# EAGLE library part STM32WB55 (library EEG)
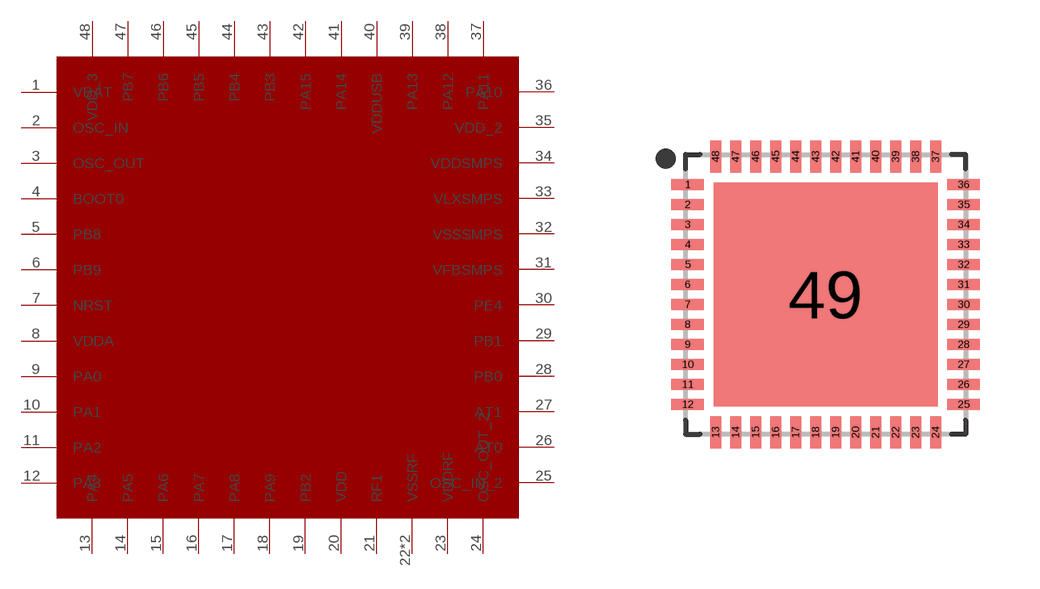
[diagram p2: symbol with the pads of STM32WB55; footprint STM32WB55]

Designator prefix -

## STM32WB55  [STM32WB55]
1  VBAT
2  OSC_IN
3  OSC_OUT
4  BOOT0
5  PB8
6  PB9
7  NRST
8  VDDA
9  PA0
10  PA1
11  PA2
12  PA3
13  PA4
14  PA5
15  PA6
16  PA7
17  PA8
18  PA9
19  PB2
20  VDD
21  RF1
22  VSSRF
23  VDDRF
24  OSC_OUT_2
25  OSC_IN_2
26  AT0
27  AT1
28  PB0
29  PB1
30  PE4
31  VFBSMPS
32  VSSSMPS
33  VLXSMPS
34  VDDSMPS
35  VDD_2
36  PA10
37  PA11
38  PA12
39  PA13
40  VDDUSB
41  PA14
42  PA15
43  PB3
44  PB4
45  PB5
46  PB6
47  PB7
48  VDD_3
49  VSSRF

## Footprint STM32WB55 (pad centres in mm)
48-QFN, 0.50 mm pitch, 7.00 X 7.00 X 0.55 mm body, 5.60 X 5.60 mm thermal pad 48-pin QFN package with 0.50 mm pitch with body size 7.00 X 7.00 X 0.55 mm and thermal pad size 5.60 X 5.60 mm
smd 0.812 x 0.282: 1 -3.45,2.75; 2 -3.45,2.25; 3 -3.45,1.75; 4 -3.45,1.25; 5 -3.45,0.75; 6 -3.45,0.25; 7 -3.45,-0.25; 8 -3.45,-0.75; 9 -3.45,-1.25; 10 -3.45,-1.75; 11 -3.45,-2.25; 12 -3.45,-2.75; 25 3.45,-2.75; 26 3.45,-2.25; 27 3.45,-1.75; 28 3.45,-1.25; 29 3.45,-0.75; 30 3.45,-0.25; 31 3.45,0.25; 32 3.45,0.75; 33 3.45,1.25; 34 3.45,1.75; 35 3.45,2.25; 36 3.45,2.75
smd 0.282 x 0.812: 13 -2.75,-3.45; 14 -2.25,-3.45; 15 -1.75,-3.45; 16 -1.25,-3.45; 17 -0.75,-3.45; 18 -0.25,-3.45; 19 0.25,-3.45; 20 0.75,-3.45; 21 1.25,-3.45; 22 1.75,-3.45; 23 2.25,-3.45; 24 2.75,-3.45; 37 2.75,3.45; 38 2.25,3.45; 39 1.75,3.45; 40 1.25,3.45; 41 0.75,3.45; 42 0.25,3.45; 43 -0.25,3.45; 44 -0.75,3.45; 45 -1.25,3.45; 46 -1.75,3.45; 47 -2.25,3.45; 48 -2.75,3.45
smd 5.6 x 5.6: 49 0,0